# Altium schematic symbol library LAUNCHXL-CC1310_Library.SchLib: 57 symbols
Pins are listed as number, name and electrical type; pins without a type are passive.

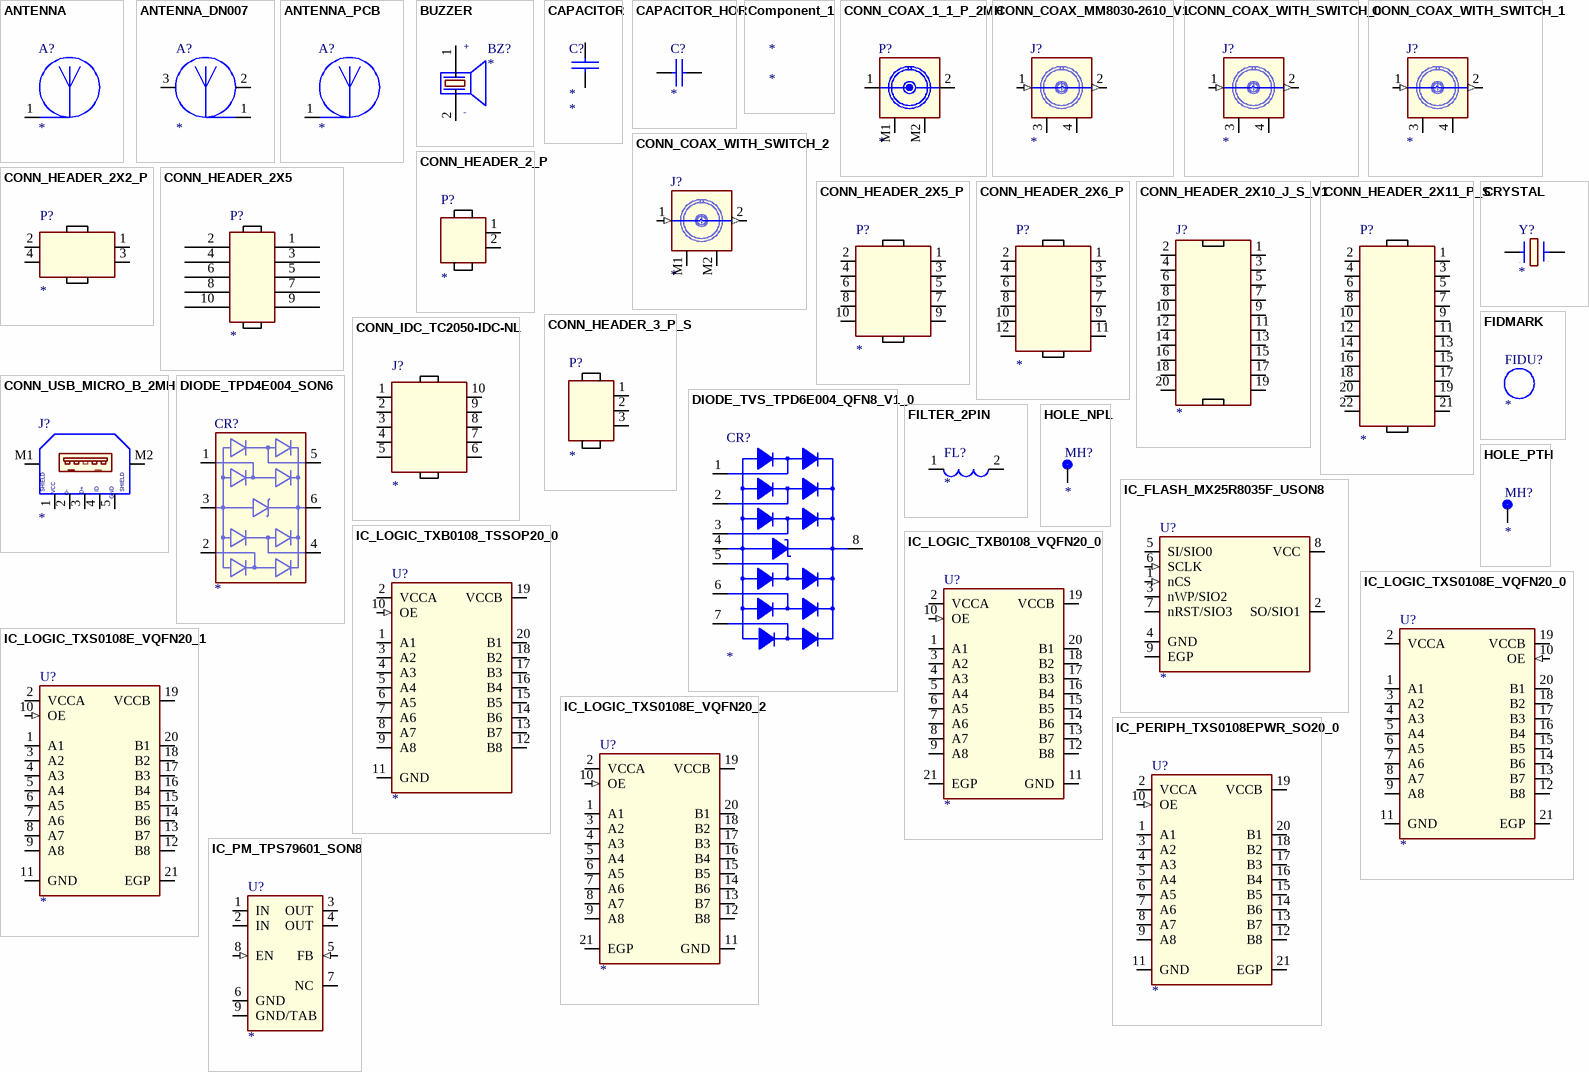
[diagram p0: symbols ANTENNA to IC_PM_TPS79601_SON8]

## ANTENNA
designator A?
CLASS: DISCRETE; Designed by: Pawel Kwaskiewicz; Design date: 2010-02-22
pins: 1 FEED/GND_1

## ANTENNA_DN007
designator A?
Designed by: Artur Bielinski; Design date: 2011-09-19
pins: 1 FEED_1, 2 GND_2, 3 GND_3

## ANTENNA_PCB
designator A?
Designed by: Artur Bielinski; CLASS: DISCRETE; Design date: 2014-08-21
pins: 1

## BUZZER
designator BZ?
pins: 1, 2
text: +; -

## CAPACITOR
designator C?
VOLTAGE: CMAX; CURRENT: CIMAX; KNEE: CBMAX; PSpiceTemplate: C^@REFDES %1 %2 ?TOLERANCE|C^@REFDES| @VALUE ?IC/IC=@IC/ TC=@TC1,@TC2 ?TOLERANCE|\n.model C^@REFDES CAP C=1 DEV=@TOLERANCE%|; DIST: FLAT; SLOPE: CSMAX; MAX_TEMP: CTMAX; TC1: 0; TC2: 0; Value: *
simulation model CAPACITOR
pins: 1, 2
1 alternate drawing of the same symbol

## CAPACITOR_HOR
designator C?
CURRENT: CIMAX; KNEE: CBMAX; DIST: FLAT; SLOPE: CSMAX; MAX_TEMP: CTMAX; TC1: 0; TC2: 0
pins: 1, 2

## Component_1
designator *

## CONN_COAX_1_1_P_2MH
designator P?
CLASS: IO
pins: 1, 2 (power), M1, M2

## CONN_COAX_MM8030-2610_V1
designator J?
Designed_By: Artur Bielinski; CLASS: IO; Design_Date: 2015-06-12
pins: 1 IN (in), 2 OUT (out), 3, 4

## CONN_COAX_WITH_SWITCH_0
designator J?
CLASS: IO; Designed_By: Artur Bielinski; Design_Date: 2015-06-03
pins: 1 IN (in), 2 OUT (out), 3, 4

## CONN_COAX_WITH_SWITCH_1
designator J?
CLASS: IO; Designed_By: Artur Bielinski; Design_Date: 2015-06-03
pins: 1 IN (in), 2 OUT (out), 3, 4

## CONN_COAX_WITH_SWITCH_2
designator J?
CLASS: IO; Designed_By: Artur Bielinski; Design_Date: 2015-06-03
pins: 1 IN (in), 2 OUT (out), M1, M2

## CONN_HEADER_2_P
designator P?
CLASS: IO
pins: 1, 2

## CONN_HEADER_2X2_P
designator P?
CLASS: IO
pins: 1, 2, 3, 4

## CONN_HEADER_2X5
designator P?
pins: 1, 2, 3, 4, 5, 6, 7, 8, 9, 10

## CONN_HEADER_2X5_P
designator P?
CLASS: IO
pins: 1, 2, 3, 4, 5, 6, 7, 8, 9, 10

## CONN_HEADER_2X6_P
designator P?
CLASS: IO
pins: 1, 2, 3, 4, 5, 6, 7, 8, 9, 10, 11, 12

## CONN_HEADER_2X10_J_S_V1
designator J?
CLASS: IO
pins: 1, 2, 3, 4, 5, 6, 7, 8, 9, 10, 11, 12, 13, 14, 15, 16, 17, 18, 19, 20

## CONN_HEADER_2X11_P_S
designator P?
pins: 1, 2, 3, 4, 5, 6, 7, 8, 9, 10, 11, 12, 13, 14, 15, 16, 17, 18, 19, 20, 21, 22

## CONN_HEADER_3_P_S
designator P?
CLASS: IO
pins: 1, 2, 3

## CONN_IDC_TC2050-IDC-NL
designator J?
pins: 1 6, 2 1, 3 7, 4 2, 5 8, 6 3, 7 9, 8 4, 9 10, 10 5

## CONN_USB_MICRO_B_2MH
designator J?
Designed_By: Artur Bielinski; CLASS: IO; Design_Date: 2015-03-31
pins: 1 VCC (power), 2 D-, 3 D+, 4 ID, 5 GND (power), M1 SHIELD1 (power), M2 SHIELD2 (power)
text: SHIELD

## CRYSTAL
designator Y?
pins: 1, 2

## DIODE_TPD4E004_SON6
designator CR?
Designed_By: Piotr Przystup; Designed_Date: 2014-05-13
pins: 1, 2, 3, 4, 5, 6

## DIODE_TVS_TPD6E004_QFN8_V1_0
designator CR?
pins: 1 IO1, 2 IO2, 3 IO3, 4 GND (power), 5 IO4, 6 IO5, 7 IO6, 8 VCC (power)

## FIDMARK
designator FIDU?
footprint FIDMARK
pins: 1

## FILTER_2PIN
designator FL?
pins: 1, 2

## HOLE_NPL
designator MH?
pins: 1

## HOLE_PTH
designator MH?
pins: 1

## IC_FLASH_MX25R8035F_USON8
designator U?
Designed_By: Artur Bielinski; CLASS: IC; Design_Date: 2015-08-05
pins: 1 nCS (in), 2 SO/SIO1 (io), 3 nWP/SIO2 (io), 4 GND (power), 5 SI/SIO0 (io), 6 SCLK (in), 7 nRST/SIO3 (io), 8 VCC (power), 9 EGP (power)

## IC_LOGIC_TXB0108_TSSOP20_0
designator U?
Designed_By: Artur Bieliñski; Design_Date: 2009-10-23
pins: 1 A1 (io), 2 VCCA (power), 3 A2 (io), 4 A3 (io), 5 A4 (io), 6 A5 (io), 7 A6 (io), 8 A7 (io), 9 A8 (io), 10 OE (in), 11 GND (power), 12 B8 (io), 13 B7 (io), 14 B6 (io), 15 B5 (io), 16 B4 (io), 17 B3 (io), 18 B2 (io), 19 VCCB (power), 20 B1 (io)

## IC_LOGIC_TXB0108_VQFN20_0
designator U?
Designed_By: Artur Bielinski; CLASS: IC; Design_Date: 2015-06-10
pins: 1 A1 (io), 2 VCCA (power), 3 A2 (io), 4 A3 (io), 5 A4 (io), 6 A5 (io), 7 A6 (io), 8 A7 (io), 9 A8 (io), 10 OE (in), 11 GND (power), 12 B8 (io), 13 B7 (io), 14 B6 (io), 15 B5 (io), 16 B4 (io), 17 B3 (io), 18 B2 (io), 19 VCCB (power), 20 B1 (io), 21 EGP (power)

## IC_LOGIC_TXS0108E_VQFN20_0
designator U?
Designed_By: Artur Bieliñski; CLASS: IC; Design_Date: 2015-06-01
pins: 1 A1 (io), 2 VCCA (power), 3 A2 (io), 4 A3 (io), 5 A4 (io), 6 A5 (io), 7 A6 (io), 8 A7 (io), 9 A8 (io), 10 OE (in), 11 GND (power), 12 B8 (io), 13 B7 (io), 14 B6 (io), 15 B5 (io), 16 B4 (io), 17 B3 (io), 18 B2 (io), 19 VCCB (power), 20 B1 (io), 21 EGP (power)

## IC_LOGIC_TXS0108E_VQFN20_1
designator U?
Designed_By: Artur Bieliñski; CLASS: IC; Design_Date: 2015-06-01
pins: 1 A1 (io), 2 VCCA (power), 3 A2 (io), 4 A3 (io), 5 A4 (io), 6 A5 (io), 7 A6 (io), 8 A7 (io), 9 A8 (io), 10 OE (in), 11 GND (power), 12 B8 (io), 13 B7 (io), 14 B6 (io), 15 B5 (io), 16 B4 (io), 17 B3 (io), 18 B2 (io), 19 VCCB (power), 20 B1 (io), 21 EGP (power)

## IC_LOGIC_TXS0108E_VQFN20_2
designator U?
Designed_By: Artur Bieliñski; CLASS: IC; Design_Date: 2015-06-01
pins: 1 A1 (io), 2 VCCA (power), 3 A2 (io), 4 A3 (io), 5 A4 (io), 6 A5 (io), 7 A6 (io), 8 A7 (io), 9 A8 (io), 10 OE (in), 11 GND (power), 12 B8 (io), 13 B7 (io), 14 B6 (io), 15 B5 (io), 16 B4 (io), 17 B3 (io), 18 B2 (io), 19 VCCB (power), 20 B1 (io), 21 EGP (power)

## IC_PERIPH_TXS0108EPWR_SO20_0
designator U?
Designed_By: Andrzej Gruchalski; Design_Date: 2013-07-16
pins: 1 A1 (io), 2 VCCA (power), 3 A2 (io), 4 A3 (io), 5 A4 (io), 6 A5 (io), 7 A6 (io), 8 A7 (io), 9 A8 (io), 10 OE (in), 11 GND (power), 12 B8 (io), 13 B7 (io), 14 B6 (io), 15 B5 (io), 16 B4 (io), 17 B3 (io), 18 B2 (io), 19 VCCB (power), 20 B1 (io), 21 EGP (power)

## IC_PM_TPS79601_SON8
designator U?
Designed_By: Artur Bielinski; CLASS: IC; Design_Date: 2014-07-16
pins: 1 IN (power), 2 IN (power), 3 OUT (power), 4 OUT (power), 5 FB (in), 6 GND (power), 7 NC, 8 EN (in), 9 GND/TAB (power)

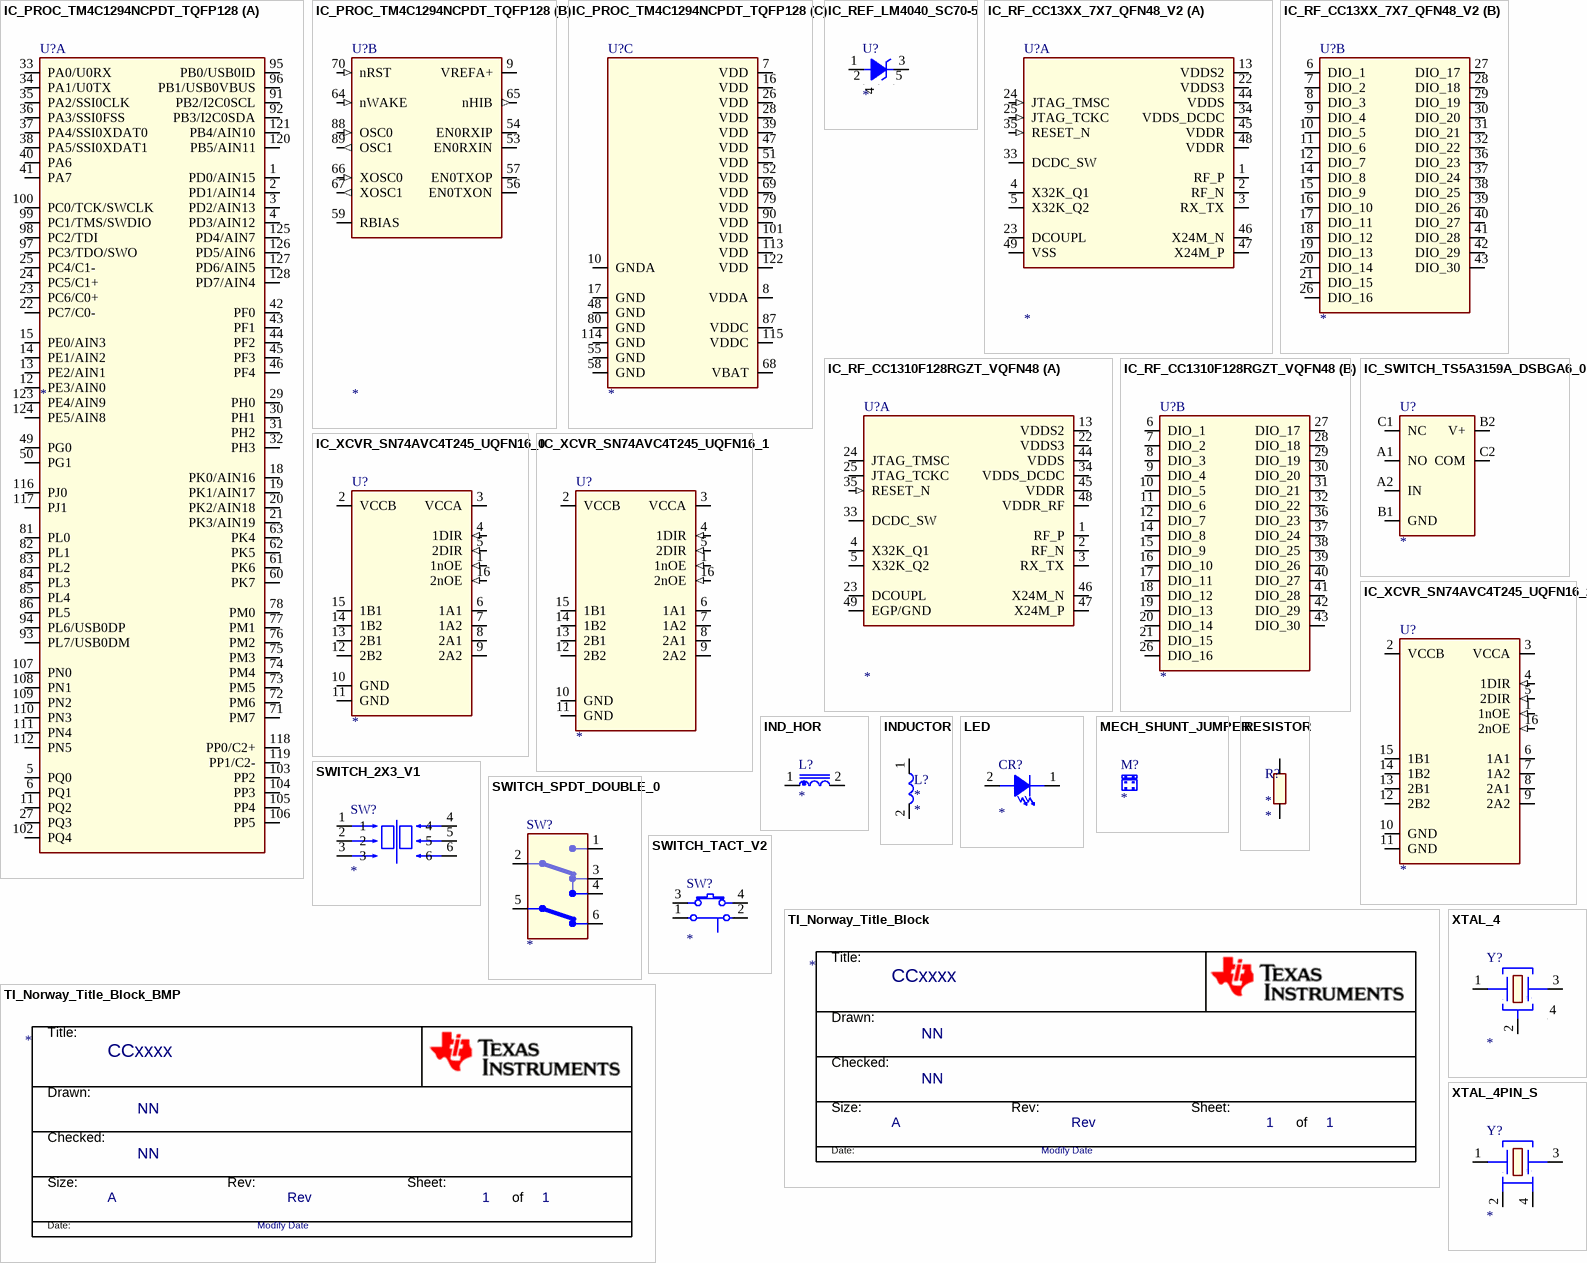
[diagram p1: symbols IC_PROC_TM4C1294NCPDT_TQFP128 to XTAL_4PIN_S]

## IC_PROC_TM4C1294NCPDT_TQFP128
designator U?
CLASS: IC; Designed_By: Artur Bielinski; SPLIT_INST: TRUE; SWAP_INFO: (S1+S2+S3); Design_Date: 2014-07-04
part A pins: 1 PD0/AIN15 (io), 2 PD1/AIN14 (io), 3 PD2/AIN13 (io), 4 PD3/AIN12 (io), 5 PQ0 (io), 6 PQ1 (io), 11 PQ2 (io), 12 PE3/AIN0 (io), 13 PE2/AIN1 (io), 14 PE1/AIN2 (io), 15 PE0/AIN3 (io), 18 PK0/AIN16 (io), 19 PK1/AIN17 (io), 20 PK2/AIN18 (io), 21 PK3/AIN19 (io), 22 PC7/C0- (io), 23 PC6/C0+ (io), 24 PC5/C1+ (io), 25 PC4/C1- (io), 27 PQ3 (io), 29 PH0 (io), 30 PH1 (io), 31 PH2 (io), 32 PH3 (io), 33 PA0/U0RX (io), 34 PA1/U0TX (io), 35 PA2/SSI0CLK (io), 36 PA3/SSI0FSS (io), 37 PA4/SSI0XDAT0 (io), 38 PA5/SSI0XDAT1 (io), 40 PA6 (io), 41 PA7 (io), 42 PF0 (io), 43 PF1 (io), 44 PF2 (io), 45 PF3 (io), 46 PF4 (io), 49 PG0 (io), 50 PG1 (io), 60 PK7 (io), 61 PK6 (io), 62 PK5 (io), 63 PK4 (io), 71 PM7 (io), 72 PM6 (io), 73 PM5 (io), 74 PM4 (io), 75 PM3 (io), 76 PM2 (io), 77 PM1 (io), 78 PM0 (io), 81 PL0 (io), 82 PL1 (io), 83 PL2 (io), 84 PL3 (io), 85 PL4 (io), 86 PL5 (io), 91 PB2/I2C0SCL (io), 92 PB3/I2C0SDA (io), 93 PL7/USB0DM (io), 94 PL6/USB0DP (io), 95 PB0/USB0ID (io), 96 PB1/USB0VBUS (io), 97 PC3/TDO/SWO (io), 98 PC2/TDI (io), 99 PC1/TMS/SWDIO (io), 100 PC0/TCK/SWCLK (io), 102 PQ4 (io), 103 PP2 (io), 104 PP3 (io), 105 PP4 (io), 106 PP5 (io), 107 PN0 (io), 108 PN1 (io), 109 PN2 (io), 110 PN3 (io), 111 PN4 (io), 112 PN5 (io), 116 PJ0 (io), 117 PJ1 (io), 118 PP0/C2+ (io), 119 PP1/C2- (io), 120 PB5/AIN11 (io), 121 PB4/AIN10 (io), 123 PE4/AIN9 (io), 124 PE5/AIN8 (io), 125 PD4/AIN7 (io), 126 PD5/AIN6 (io), 127 PD6/AIN5 (io), 128 PD7/AIN4 (io)
part B pins: 9 VREFA+, 53 EN0RXIN (io), 54 EN0RXIP (io), 56 EN0TXON (io), 57 EN0TXOP (io), 59 RBIAS, 64 nWAKE (in), 65 nHIB (out), 66 XOSC0 (in), 67 XOSC1 (out), 70 nRST (in), 88 OSC0 (in), 89 OSC1 (out)
part C pins: 7 VDD (power), 8 VDDA (power), 10 GNDA (power), 16 VDD (power), 17 GND (power), 26 VDD (power), 28 VDD (power), 39 VDD (power), 47 VDD (power), 48 GND (power), 51 VDD (power), 52 VDD (power), 55 GND (power), 58 GND (power), 68 VBAT (power), 69 VDD (power), 79 VDD (power), 80 GND (power), 87 VDDC (power), 90 VDD (power), 101 VDD (power), 113 VDD (power), 114 GND (power), 115 VDDC (power), 122 VDD (power)

## IC_REF_LM4040_SC70-5
designator U?
Designed_By: Artur Bielinski; CLASS: IC; Design_Date: 2014-08-13
pins: 1 ANODE, 2 NC_2, 3 CATHODE, 4 NC_4, 5 NC_5

## IC_RF_CC13XX_7X7_QFN48_V2
designator U?
Designed_By: Artur Bielinski; SPLIT_INST: TRUE; SWAP_INFO: (S1+S2); Design_Date: 2014-09-04
part A pins: 1 RF_P, 2 RF_N, 3 RX_TX (io), 4 X32K_Q1, 5 X32K_Q2, 13 VDDS2 (power), 22 VDDS3 (power), 23 DCOUPL, 24 JTAG_TMSC (in), 25 JTAG_TCKC (in), 33 DCDC_SW (power), 34 VDDS_DCDC (power), 35 RESET_N (in), 44 VDDS (power), 45 VDDR (power), 46 X24M_N, 47 X24M_P, 48 VDDR (power), 49 VSS (power)
part B pins: 6 DIO_1 (io), 7 DIO_2 (io), 8 DIO_3 (io), 9 DIO_4 (io), 10 DIO_5 (io), 11 DIO_6 (io), 12 DIO_7 (io), 14 DIO_8 (io), 15 DIO_9 (io), 16 DIO_10 (io), 17 DIO_11 (io), 18 DIO_12 (io), 19 DIO_13 (io), 20 DIO_14 (io), 21 DIO_15 (io), 26 DIO_16 (io), 27 DIO_17 (io), 28 DIO_18 (io), 29 DIO_19 (io), 30 DIO_20 (io), 31 DIO_21 (io), 32 DIO_22 (io), 36 DIO_23 (io), 37 DIO_24 (io), 38 DIO_25 (io), 39 DIO_26 (io), 40 DIO_27 (io), 41 DIO_28 (io), 42 DIO_29 (io), 43 DIO_30 (io)

## IC_RF_CC1310F128RGZT_VQFN48
designator U?
CLASS: IC; SWAP_INFO: (S1+S2); SPLIT_INST: TRUE; Designed_By: Artur Bielinski; Design_Date: 2015-11-27
part A pins: 1 RF_P (io), 2 RF_N (io), 3 RX_TX (io), 4 X32K_Q1 (io), 5 X32K_Q2 (io), 13 VDDS2 (power), 22 VDDS3 (power), 23 DCOUPL (power), 24 JTAG_TMSC (io), 25 JTAG_TCKC (io), 33 DCDC_SW (power), 34 VDDS_DCDC (power), 35 RESET_N (in), 44 VDDS (power), 45 VDDR (power), 46 X24M_N (io), 47 X24M_P (io), 48 VDDR_RF (power), 49 EGP/GND (power)
part B pins: 6 DIO_1 (io), 7 DIO_2 (io), 8 DIO_3 (io), 9 DIO_4 (io), 10 DIO_5 (io), 11 DIO_6 (io), 12 DIO_7 (io), 14 DIO_8 (io), 15 DIO_9 (io), 16 DIO_10 (io), 17 DIO_11 (io), 18 DIO_12 (io), 19 DIO_13 (io), 20 DIO_14 (io), 21 DIO_15 (io), 26 DIO_16 (io), 27 DIO_17 (io), 28 DIO_18 (io), 29 DIO_19 (io), 30 DIO_20 (io), 31 DIO_21 (io), 32 DIO_22 (io), 36 DIO_23 (io), 37 DIO_24 (io), 38 DIO_25 (io), 39 DIO_26 (io), 40 DIO_27 (io), 41 DIO_28 (io), 42 DIO_29 (io), 43 DIO_30 (io)

## IC_SWITCH_TS5A3159A_DSBGA6_0
designator U?
Designed_By: Artur Bielinski; Design_Date: 2013-07-05
pins: A1 NO, A2 IN, B1 GND (power), B2 V+ (power), C1 NC, C2 COM

## IC_XCVR_SN74AVC4T245_UQFN16_0
designator U?
Designed_By: Artur Bielinski; Design_Date: 2014-03-21
pins: 1 1nOE (in), 2 VCCB (power), 3 VCCA (power), 4 1DIR (in), 5 2DIR (in), 6 1A1 (io), 7 1A2 (io), 8 2A1 (io), 9 2A2 (io), 10 GND (power), 11 GND (power), 12 2B2 (io), 13 2B1 (io), 14 1B2 (io), 15 1B1 (io), 16 2nOE (in)

## IC_XCVR_SN74AVC4T245_UQFN16_1
designator U?
Designed_By: Artur Bielinski; Design_Date: 2014-03-21
pins: 1 1nOE (in), 2 VCCB (power), 3 VCCA (power), 4 1DIR (in), 5 2DIR (in), 6 1A1 (io), 7 1A2 (io), 8 2A1 (io), 9 2A2 (io), 10 GND (power), 11 GND (power), 12 2B2 (io), 13 2B1 (io), 14 1B2 (io), 15 1B1 (io), 16 2nOE (in)

## IC_XCVR_SN74AVC4T245_UQFN16_2
designator U?
Designed_By: Artur Bielinski; Design_Date: 2014-03-21
pins: 1 1nOE (in), 2 VCCB (power), 3 VCCA (power), 4 1DIR (in), 5 2DIR (in), 6 1A1 (io), 7 1A2 (io), 8 2A1 (io), 9 2A2 (io), 10 GND (power), 11 GND (power), 12 2B2 (io), 13 2B1 (io), 14 1B2 (io), 15 1B1 (io), 16 2nOE (in)

## IND_HOR
designator L?
CLASS: DISCRETE
pins: 1, 2

## INDUCTOR
designator L?
DIST: FLAT; DIELECTRIC: DSMAX; PSpiceTemplate: L^@REFDES %1 %2 ?TOLERANCE|L^@REFDES| @VALUE ?IC/IC=@IC/ ?TOLERANCE|\n.model l^@REFDES IND L=1 DEV=@TOLERANCE%|; Current: LMAX; Value: *
simulation model INDUCTOR
pins: 1, 2

## LED
designator CR?
pins: 1 C, 2 A

## MECH_SHUNT_JUMPER
designator M?
Designed_By: Artur Bielinski; CLASS: DISCRETE; Design_Date: 2015-03-18

## RESISTOR
designator R?
PSpiceTemplate: R^@REFDES %1 %2 ?TOLERANCE|R^@REFDES| @VALUE TC=@TC1,@TC2 ?TOLERANCE|\n.model R^@REFDES RES R=1 DEV=@TOLERANCE%|; VOLTAGE: RVMAX; DIST: FLAT; MAX_TEMP: RTMAX; TC1: 0; POWER: RMAX; TC2: 0; Value: *
simulation model RESISTOR
pins: 1, 2
1 alternate drawing of the same symbol

## SWITCH_2X3_V1
designator SW?
Designed_By: Pawe³ Krzy¿anowski; CLASS: DISCRETE; Design_Date: 2015-08-21
pins: 1, 2, 3, 4, 5, 6

## SWITCH_SPDT_DOUBLE_0
designator SW?
Designed_By: Artur Bielinski; Design_Date: 2012-10-19
pins: 1, 2, 3, 4, 5, 6

## SWITCH_TACT_V2
designator SW?
Designed_By: Artur Bielinski; CLASS: DISCRETE; Design_Date: 2014-08-07
pins: 1, 2, 3, 4

## TI_Norway_Title_Block
designator *  Designer name: NN  Design Modify Date: Modify Date  Page Size: A  RevCode: Rev  Page Count: 1  Title: CCxxxx  (graphical)
Check name: NN; Page Number: 1
text: Title:; Drawn:; Checked:; Size:; Rev:; Sheet:; of; Date:

## TI_Norway_Title_Block_BMP
designator *  Designer name: NN  Design Modify Date: Modify Date  Page Size: A  RevCode: Rev  Page Count: 1  Title: CCxxxx  (graphical)
Check name: NN; Page Number: 1
text: Title:; Drawn:; Checked:; Size:; Rev:; Sheet:; of; Date:

## XTAL_4
designator Y?
pins: 1 (io), 2 GND (power), 3 (io), 4 NC_4

## XTAL_4PIN_S
designator Y?
pins: 1, 2 (power), 3, 4 (power)